# EAGLE library part 43045-22_S (library con-molex-micro-fit)
HEADER
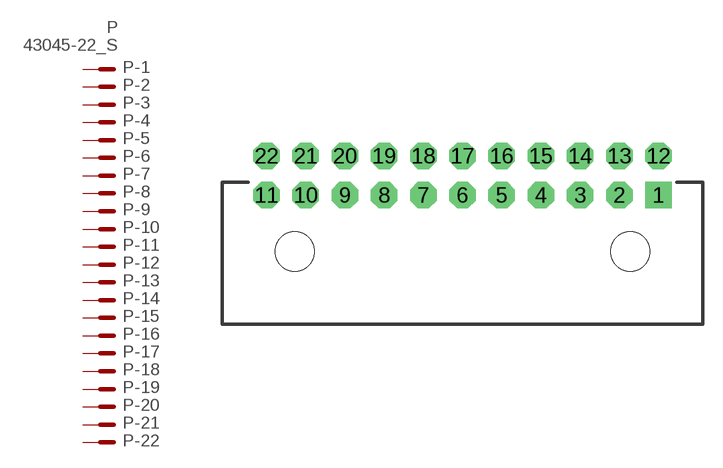
[diagram p18: symbol with the pads of 43045-22; footprint 43045-22]

Designator prefix P; gates -1=P-NV -2=P-N -3=P-N -4=P-N -5=P-N -6=P-N -7=P-N -8=P-N -9=P-N -10=P-N -11=P-N -12=P-N -13=P-N -14=P-N -15=P-N -16=P-N -17=P-N -18=P-N -19=P-N -20=P-N -21=P-N -22=P-N

## 43045-22_S  [43045-22]
1  -1:P  pas
2  -2:P  pas
3  -3:P  pas
4  -4:P  pas
5  -5:P  pas
6  -6:P  pas
7  -7:P  pas
8  -8:P  pas
9  -9:P  pas
10  -10:P  pas
11  -11:P  pas
12  -12:P  pas
13  -13:P  pas
14  -14:P  pas
15  -15:P  pas
16  -16:P  pas
17  -17:P  pas
18  -18:P  pas
19  -19:P  pas
20  -20:P  pas
21  -21:P  pas
22  -22:P  pas

## Footprint 43045-22 (pad centres in mm)
HEADER
drill 1.016 pad 2.032 square: 1 15,0
drill 1.016 pad 2.032 octagon: 2 12,0; 3 9,0; 4 6,0; 5 3,0; 6 0,0; 7 -3,0; 8 -6,0; 9 -9,0; 10 -12,0; 11 -15,0; 12 15,3; 13 12,3; 14 9,3; 15 6,3; 16 3,3; 17 0,3; 18 -3,3; 19 -6,3; 20 -9,3; 21 -12,3; 22 -15,3
hole 3 at -12.85,-4.32
hole 3 at 12.85,-4.32